# EAGLE library part MC100EP140DG (library on-semiconductor-01)
ECL Phase-Frequency Detector
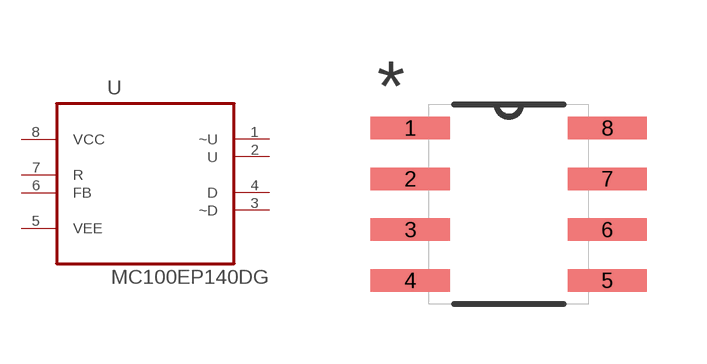
[diagram p102: symbol with the pads of SOIC127P600X175-8N; footprint SOIC127P600X175-8N]

Designator prefix U

## MC100EP140DG (MPN: MC100EP140DG; OC_FARNELL: 1181714; OC_NEWARK: 71J5409; PACKAGE: SOIC-8; SUPPLIER: ON SEMICONDUCTOR)  [SOIC127P600X175-8N]
1  ~U  out
2  U  out
3  ~D  out
4  D  out
5  VEE  pwr
6  FB  in
7  R  in
8  VCC  pwr

## Footprint SOIC127P600X175-8N (pad centres in mm)
smd 1.981 x 0.559: 1 -2.464,1.905; 2 -2.464,0.635; 3 -2.464,-0.635; 4 -2.464,-1.905; 5 2.464,-1.905; 6 2.464,-0.635; 7 2.464,0.635; 8 2.464,1.905